# Altium footprint library LED.PcbLib: 2 footprints
Each footprint in its own frame and in the unit in brackets; x right, y up, seen from the top. Pads: shape width x height; smd on the part's side, far side on the other; paste and mask are expansions set on the pad; w line width, h text height; cw(c..) or ccw(c..) is an arc to the next point about the centre after c.
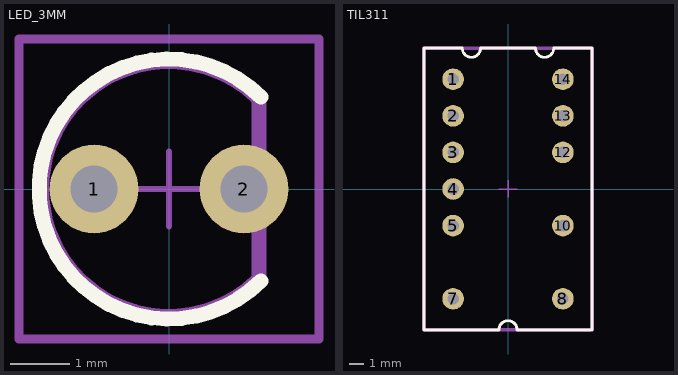
[diagram p0: the footprints below, top view; thin cyan lines are the x and y axes]

## LED_3MM [mm]
pads (2):
  round 1.5 hole 0.8: 1(-1.27,0) 2(1.27,0)
Top Overlay:
  lines w0.254: 1.556,-1.556 cw(c0,0) 1.556,1.556
Mechanical 13:
  lines w0.254: 1.524,-1.524 cw(c-0.002,0) 1.524,1.524 1.524,-1.524
Mechanical 15:
  lines w0.1: -0.635,0 0.635,0 ; 0,-0.635 0,0.635
  lines w0.15: -2.54,-2.54 2.54,-2.54 2.54,2.54 -2.54,2.54 -2.54,-2.54
Mechanical 17:
  text ".Designator" at -0.402,-0.202 h1.5
3D body "LED DIP 3MM.step": height 6, standoff -2.5, extent -1.902,-1.902 1.598,1.898

## TIL311 [mm]
pads (11):
  round 1.5 hole 0.8: 1(-3.81,7.62) 2(-3.81,5.08) 3(-3.81,2.54) 4(-3.81,0) 5(-3.81,-2.54) 7(-3.81,-7.62) 8(3.81,-7.62) 10(3.81,-2.54) 12(3.81,2.54) 13(3.81,5.08) 14(3.81,7.62)
Top Overlay:
  lines w0.2: 5.715,-9.779 0.635,-9.779 ccw(c0,-9.779) -0.635,-9.779 -5.842,-9.779 -5.842,9.779 -3.175,9.779 ccw(c-2.54,9.779) -1.905,9.779 1.905,9.779 ccw(c2.54,9.779) 3.175,9.779 5.842,9.779 5.842,-9.779
Mechanical 13:
  lines w0.254: -5.842,-9.779 -5.842,9.779 5.842,9.779 5.842,-9.779 -5.842,-9.779
Mechanical 15:
  lines w0.1: -0.635,0 0.635,0 ; 0,-0.58 0,0.62
  lines w0.15: -5.842,-9.779 -5.842,9.779 5.842,9.779 5.842,-9.779 -5.842,-9.779
Mechanical 17:
  text ".Designator" at -0.4,-0.2 h2
3D body: height 3, standoff 2, extent -5.842,-9.779 5.842,9.779